# EAGLE library part DISPLAY (library LED Controller)
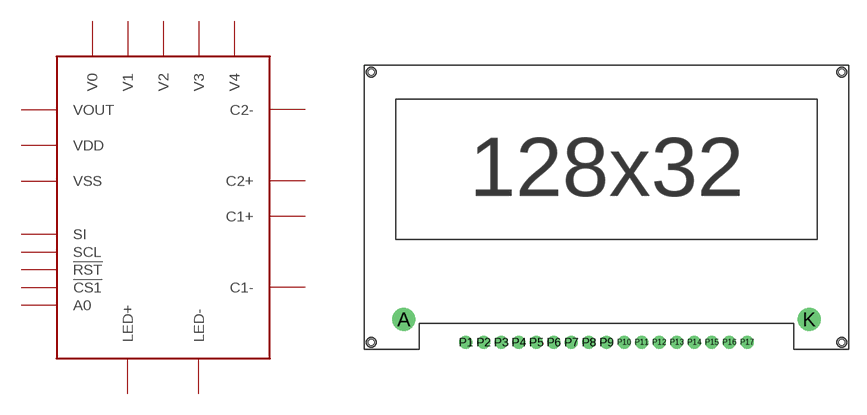
[diagram p2: symbol with the pads of NHD-C12832A1Z-NSW-BBW-3V3; footprint NHD-C12832A1Z-NSW-BBW-3V3]

Designator prefix -

## DISPLAY  [NHD-C12832A1Z-NSW-BBW-3V3]
A  LED+  pas
K  LED-  pas
P1  V0  pas
P2  V1  pas
P3  V2  pas
P4  V3  pas
P5  V4  pas
P6  C2-  pas
P7  C2+  pas
P8  C1+  pas
P9  C1-  pas
P10  VOUT  pas
P11  VSS  pas
P12  VDD  pas
P13  SI  pas
P14  SCL  pas
P15  A0  pas
P16  !RST  pas
P17  !CS1  pas

## Footprint NHD-C12832A1Z-NSW-BBW-3V3 (pad centres in mm)
drill 1.3: A -17.3,1.95; K 17.3,1.95
drill 0.6: P1 -12,0; P2 -10.5,0; P3 -9,0; P4 -7.5,0; P5 -6,0; P6 -4.5,0; P7 -3,0; P8 -1.5,0; P9 0,0; P10 1.5,0; P11 3,0; P12 4.5,0; P13 6,0; P14 7.5,0; P15 9,0; P16 10.5,0; P17 12,0
hole 0.5 at -20.1,23.1
hole 0.5 at 20.1,23.1
hole 0.5 at 20.1,0
hole 0.5 at -20.1,0